# Altium footprint library 10BQ040.PcbLib: 3 footprints
Each footprint in its own frame and in the unit in brackets; x right, y up, seen from the top. Pads: shape width x height; smd on the part's side, far side on the other; paste and mask are expansions set on the pad; w line width, h text height; cw(c..) or ccw(c..) is an arc to the next point about the centre after c.
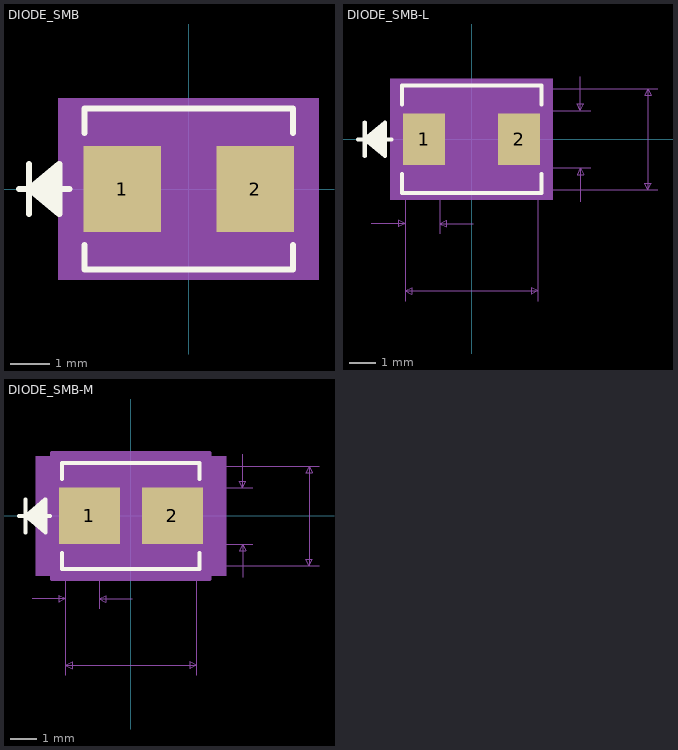
[diagram p0: the footprints below, top view; thin cyan lines are the x and y axes]

## DIODE_SMB [mil]
pads (2):
  rect 77x85 smd: 1(-66,0) 2(66,0)
Top Overlay:
  lines w6: -168.5,0 -118.5,0 ; -158.5,-25 -158.5,25 ; -128.5,-20 -158.5,0 ; -128.5,-15 -158.5,0 ; -128.5,-10 -158.5,0 ; -128.5,-5 -158.5,0 ; -128.5,5 -158.5,0 ; -128.5,10 -158.5,0 ; -128.5,15 -158.5,0 ; -128.5,20 -158.5,0 ; -103.5,-55.6 -103.5,-80 103.5,-80 103.5,-55.6 ; -103.5,55.6 -103.5,80 103.5,80 103.5,55.6 ; -158.5,0 -128.5,-25 -128.5,25 -158.5,0
Mechanical 5:
  region: 129.5,-90 -129.5,-90 -129.5,90 129.5,90
Mechanical 13:
  lines w1: -168.5,0 -118.5,0 ; -158.5,-25 -158.5,25 ; -128.5,-20 -158.5,0 ; -128.5,-15 -158.5,0 ; -128.5,-10 -158.5,0 ; -128.5,-5 -158.5,0 ; -128.5,5 -158.5,0 ; -128.5,10 -158.5,0 ; -128.5,15 -158.5,0 ; -128.5,20 -158.5,0 ; -158.5,0 -128.5,-25 -128.5,25 -158.5,0 ; -98.5,-75 -98.5,75 98.5,75 98.5,-75 -98.5,-75
Mechanical 15:
  region: -108.5,-52.5 -114.5,-52.5 -114.5,52.5 -108.5,52.5 -108.5,85 108.5,85 108.5,52.5 114.5,52.5 114.5,-52.5 108.5,-52.5 108.5,-85 -108.5,-85
  lines w6: -114.5,-52.5 -108.5,-52.5 -108.5,-85 108.5,-85 108.5,-52.5 114.5,-52.5 114.5,52.5 108.5,52.5 108.5,85 -108.5,85 -108.5,52.5 -114.5,52.5 -114.5,-52.5
3D body: height 10, standoff 0, extent 0,0 10,10
3D body "DIODE_SMB.step": height 95.98, standoff 0, extent -98.5,-75 98.51,75

## DIODE_SMB-L [mil]
pads (2):
  rect 62x77 smd paste+0 mask+0: 1(-70.5,0) 2(70.5,0)
Top Overlay:
  lines w6: -168.5,0 -118.5,0 ; -158.5,-25 -158.5,25 ; -128.5,-20 -158.5,0 ; -128.5,-15 -158.5,0 ; -128.5,-10 -158.5,0 ; -128.5,-5 -158.5,0 ; -128.5,5 -158.5,0 ; -128.5,10 -158.5,0 ; -128.5,15 -158.5,0 ; -128.5,20 -158.5,0 ; -103.5,-51.45 -103.5,-80 103.5,-80 103.5,-51.45 ; -103.5,51.45 -103.5,80 103.5,80 103.5,51.45 ; -158.5,0 -128.5,25 -128.5,-25 -158.5,0
Mechanical 5:
  region: 120.5,-90 -120.5,-90 -120.5,90 120.5,90
Mechanical 7:
  lines w1: -148.5,-125 -98.5,-125 ; -98.5,-240 -98.5,0 -98.5,-140 ; -47.5,-140 -47.5,0 ; 2.5,-125 -47.5,-125 ; 98.5,-240 98.5,0 ; 111.5,-75 276.5,-75 ; 111.5,-42.5 176.5,-42.5 ; 111.5,42.5 176.5,42.5 ; 111.5,75 276.5,75 ; 161.5,-92.5 161.5,-42.5 ; 161.5,92.5 161.5,42.5 ; -98.5,-225 98.5,-225 ; -98.5,-225 -88.5,-220 -88.5,-230 -98.5,-225 ; -98.5,-125 -108.5,-120 -108.5,-130 -98.5,-125 ; -47.5,-125 -37.5,-120 -37.5,-130 -47.5,-125 ; 98.5,-225 88.5,-220 88.5,-230 98.5,-225 ; 161.5,-42.5 156.5,-52.5 166.5,-52.5 161.5,-42.5 ; 161.5,42.5 156.5,52.5 166.5,52.5 161.5,42.5 ; 261.5,-75 261.5,75 ; 261.5,-75 256.5,-65 266.5,-65 261.5,-75 ; 261.5,75 256.5,65 266.5,65 261.5,75
  text "Default Padstyle: RX62Y77D0T" at -350,-350 h50
  text "Alt 1 Padstyle: OX60Y90D30P" at -337.5,-425 h50
  text "Alt 2 Padstyle: OX90Y60D30P" at -337.5,-500 h50
  text "0.085in/2.159mm" at 181.5,-12.5 h25
  text "0.15in/3.81mm" at 281.5,-12.5 h25
  text "0.197in/5.004mm" at -93.75,-270 h25
  text "0.051in/1.295mm" at -166.75,-170 h25
Mechanical 13:
  lines w1: -168.5,0 -118.5,0 ; -158.5,-25 -158.5,25 ; -128.5,-20 -158.5,0 ; -128.5,-15 -158.5,0 ; -128.5,-10 -158.5,0 ; -128.5,-5 -158.5,0 ; -128.5,5 -158.5,0 ; -128.5,10 -158.5,0 ; -128.5,15 -158.5,0 ; -128.5,20 -158.5,0 ; -158.5,0 -128.5,25 -128.5,-25 -158.5,0 ; -98.5,-75 98.5,-75 98.5,75 -98.5,75 -98.5,-75
Mechanical 15:
  region: -102.5,-46.5 -105.5,-46.5 -105.5,46.5 -102.5,46.5 -102.5,79 102.5,79 102.5,46.5 105.5,46.5 105.5,-46.5 102.5,-46.5 102.5,-79 -102.5,-79
  lines w6: -105.5,-46.5 -105.5,46.5 -102.5,46.5 -102.5,79 102.5,79 102.5,46.5 105.5,46.5 105.5,-46.5 102.5,-46.5 102.5,-79 -102.5,-79 -102.5,-46.5 -105.5,-46.5
3D body: height 10, standoff 0, extent 0,0 10,10

## DIODE_SMB-M [mil]
pads (2):
  rect 92x85 smd paste+0 mask+0: 1(-62.5,0) 2(62.5,0)
Top Overlay:
  lines w6: -168.5,0 -121.6,0 ; -158.5,-25 -158.5,25 ; -128.5,-20 -158.5,0 ; -128.5,-15 -158.5,0 ; -128.5,-10 -158.5,0 ; -128.5,-5 -158.5,0 ; -128.5,5 -158.5,0 ; -128.5,10 -158.5,0 ; -128.5,15 -158.5,0 ; -128.5,20 -158.5,0 ; -103.5,-55.6 -103.5,-80 103.5,-80 103.5,-55.6 ; -103.5,55.6 -103.5,80 103.5,80 103.5,55.6 ; -158.5,0 -128.5,25 -128.5,-25 -158.5,0
Mechanical 5:
  region: 143.5,-90 -143.5,-90 -143.5,90 143.5,90
Mechanical 7:
  lines w1: -148.5,-125 -98.5,-125 ; -98.5,-240 -98.5,0 -98.5,-140 ; -47.5,-140 -47.5,0 ; 2.5,-125 -47.5,-125 ; 98.5,-240 98.5,0 ; 118.5,-75 283.5,-75 ; 118.5,-42.5 183.5,-42.5 ; 118.5,42.5 183.5,42.5 ; 118.5,75 283.5,75 ; 168.5,-92.5 168.5,-42.5 ; 168.5,92.5 168.5,42.5 ; -98.5,-225 98.5,-225 ; -98.5,-225 -88.5,-220 -88.5,-230 -98.5,-225 ; -98.5,-125 -108.5,-120 -108.5,-130 -98.5,-125 ; -47.5,-125 -37.5,-120 -37.5,-130 -47.5,-125 ; 98.5,-225 88.5,-220 88.5,-230 98.5,-225 ; 168.5,-42.5 163.5,-52.5 173.5,-52.5 168.5,-42.5 ; 168.5,42.5 163.5,52.5 173.5,52.5 168.5,42.5 ; 268.5,-75 268.5,75 ; 268.5,-75 263.5,-65 273.5,-65 268.5,-75 ; 268.5,75 263.5,65 273.5,65 268.5,75
  text "Default Padstyle: RX92Y85D0T" at -350,-350 h50
  text "Alt 1 Padstyle: OX60Y90D30P" at -337.5,-425 h50
  text "Alt 2 Padstyle: OX90Y60D30P" at -337.5,-500 h50
  text "0.085in/2.159mm" at 188.5,-12.5 h25
  text "0.15in/3.81mm" at 288.5,-12.5 h25
  text "0.197in/5.004mm" at -93.75,-270 h25
  text "0.051in/1.295mm" at -166.75,-170 h25
Mechanical 13:
  lines w1: -168.5,0 -118.5,0 ; -158.5,-25 -158.5,25 ; -128.5,-20 -158.5,0 ; -128.5,-15 -158.5,0 ; -128.5,-10 -158.5,0 ; -128.5,-5 -158.5,0 ; -128.5,5 -158.5,0 ; -128.5,10 -158.5,0 ; -128.5,15 -158.5,0 ; -128.5,20 -158.5,0 ; -158.5,0 -128.5,25 -128.5,-25 -158.5,0 ; -98.5,-75 98.5,-75 98.5,75 -98.5,75 -98.5,-75
Mechanical 15:
  region: -118.5,-62.5 -128.5,-62.5 -128.5,62.5 -118.5,62.5 -118.5,95 118.5,95 118.5,62.5 128.5,62.5 128.5,-62.5 118.5,-62.5 118.5,-95 -118.5,-95
  lines w6: -128.5,-62.5 -128.5,62.5 -118.5,62.5 -118.5,95 118.5,95 118.5,62.5 128.5,62.5 128.5,-62.5 118.5,-62.5 118.5,-95 -118.5,-95 -118.5,-62.5 -128.5,-62.5
3D body: height 10, standoff 0, extent 0,0 10,10